# Altium schematic symbol library FT230XQ-R.SchLib: 1 symbol
Pins are listed as number, name and electrical type; pins without a type are passive.

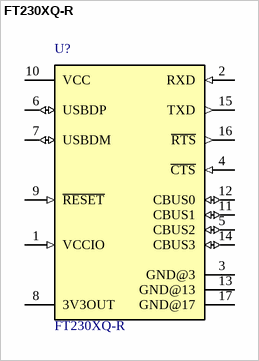
[diagram p0: symbol FT230XQ-R]

## FT230XQ-R
designator U?
FT230X Series 3 Mbaud USB Full Speed to Basic UART IC with USB Charger Detection; MF: FTDI,; SnapEDA_Link: https://www.snapeda.com/parts/FT230XQ-R/FTDI%2C%20Future%20Technology%20Devices%20International%20Ltd/view-part/?ref=snap; Digi-Key_Part_Number: 768-1130-1-ND; Digi-Key_Purchase_URL: https://www.digikey.com/product-detail/en/ftdi-future-technology-devices-international-ltd/FT230XQ-R/768-1130-1-ND/3029158?utm_source=snapeda&utm_medium=aggregator&utm_campaign=symbol; Package: QFN-16 FTDI; MP: FT230XQ-R; Value: *
footprint *QFN16
pins: 1 VCCIO (in), 2 RXD (in), 3 GND@3 (power), 4 ~{CTS} (in), 5 CBUS2 (io), 6 USBDP (io), 7 USBDM (io), 8 3V3OUT, 9 ~{RESET} (in), 10 VCC (power), 11 CBUS1 (io), 12 CBUS0 (io), 13 GND@13 (power), 14 CBUS3 (io), 15 TXD (out), 16 ~{RTS} (out), 17 GND@17 (power)